# Altium schematic symbol library BQ77PL900.Schlib: 1 symbol
Pins are listed as number, name and electrical type; pins without a type are passive.

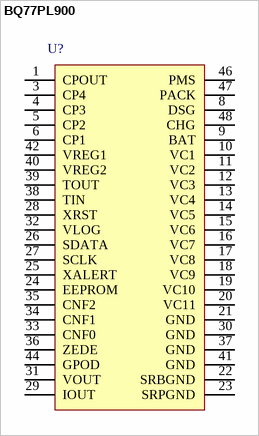
[diagram p0: symbol BQ77PL900]

## BQ77PL900
designator U?  (value not drawn)
5-10 cell Li-Ion Battery Manager
pins: 1 CPOUT, 2 NC hidden, 3 CP4, 4 CP3, 5 CP2, 6 CP1, 7 NC hidden, 8 DSG, 9 BAT, 10 VC1, 11 VC2, 12 VC3, 13 VC4, 14 VC5, 15 VC6, 16 VC7, 17 VC8, 18 VC9, 19 VC10, 20 VC11, 21 GND, 22 SRBGND, 23 SRPGND, 24 EEPROM, 25 XALERT, 26 SDATA, 27 SCLK, 28 XRST, 29 IOUT, 30 GND, 31 VOUT, 32 VLOG, 33 CNF0, 34 CNF1, 35 CNF2, 36 ZEDE, 37 GND, 38 TIN, 39 TOUT, 40 VREG2, 41 GND, 42 VREG1, 43 NC hidden, 44 GPOD, 45 NC hidden, 46 PMS, 47 PACK, 48 CHG